# Altium schematic symbol library MCU_Microchip_ATmega.SchLib: 440 symbols (part 9 of 9)
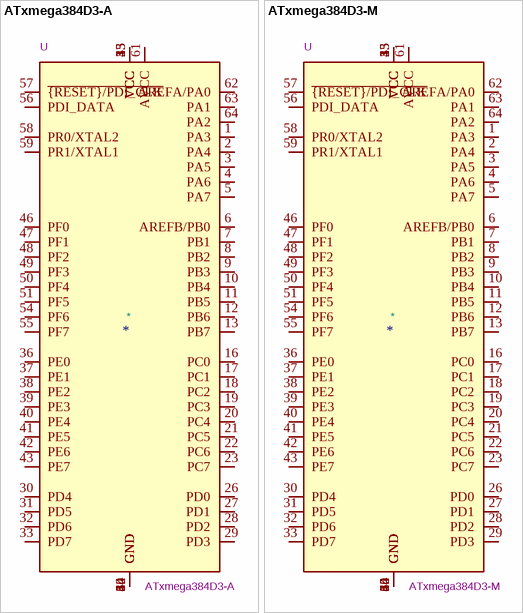
[diagram p48: symbols ATxmega384D3-A to ATxmega384D3-M]

## ATxmega384D3-A
designator *  value ATxmega384D3-A  Reference: U
32MHz, 384kB Flash, 8kB Boot, 32kB SRAM, 4kB EEPROM, JTAG, TQFP-64; ki_keywords: AVR 8/16bit Microcontroller XMegaAVR; ki_fp_filters: TQFP*14x14mm*P0.8mm*; Footprint: Package_QFP:TQFP-64_14x14mm_P0.8mm; Datasheet: http://ww1.microchip.com/downloads/en/DeviceDoc/Atmel-8134-8-16-bit-Atmel-XMEGA-D3-Microcontroller_Datasheet.pdf; Description_: 32MHz, 384kB Flash, 8kB Boot, 32kB SRAM, 4kB EEPROM, JTAG, TQFP-64
pins: 1 PA3, 2 PA4, 3 PA5, 4 PA6, 5 PA7, 6 AREFB/PB0, 7 PB1, 8 PB2, 9 PB3, 10 PB4, 11 PB5, 12 PB6, 13 PB7, 14 GND, 15 VCC, 16 PC0, 17 PC1, 18 PC2, 19 PC3, 20 PC4, 21 PC5, 22 PC6, 23 PC7, 24 GND, 25 VCC, 26 PD0, 27 PD1, 28 PD2, 29 PD3, 30 PD4, 31 PD5, 32 PD6, 33 PD7, 34 GND, 35 VCC, 36 PE0, 37 PE1, 38 PE2, 39 PE3, 40 PE4, 41 PE5, 42 PE6, 43 PE7, 44 GND, 45 VCC, 46 PF0, 47 PF1, 48 PF2, 49 PF3, 50 PF4, 51 PF5, 52 GND, 53 VCC, 54 PF6, 55 PF7, 56 PDI_DATA, 57 ~{{RESET}/PDI_CLK}, 58 PR0/XTAL2, 59 PR1/XTAL1, 60 GND, 61 AVCC, 62 AREFA/PA0, 63 PA1, 64 PA2

## ATxmega384D3-M
designator *  value ATxmega384D3-M  Reference: U
32MHz, 384kB Flash, 8kB Boot, 32kB SRAM, 4kB EEPROM, JTAG, QFN-64; ki_keywords: AVR 8/16bit Microcontroller XMegaAVR; ki_fp_filters: QFN*1EP*9x9mm*P0.5mm*; Footprint: Package_DFN_QFN:QFN-64-1EP_9x9mm_P0.5mm_EP7.65x7.65mm; Datasheet: http://ww1.microchip.com/downloads/en/DeviceDoc/Atmel-8134-8-16-bit-Atmel-XMEGA-D3-Microcontroller_Datasheet.pdf; Description_: 32MHz, 384kB Flash, 8kB Boot, 32kB SRAM, 4kB EEPROM, JTAG, QFN-64
pins: 1 PA3, 2 PA4, 3 PA5, 4 PA6, 5 PA7, 6 AREFB/PB0, 7 PB1, 8 PB2, 9 PB3, 10 PB4, 11 PB5, 12 PB6, 13 PB7, 14 GND, 15 VCC, 16 PC0, 17 PC1, 18 PC2, 19 PC3, 20 PC4, 21 PC5, 22 PC6, 23 PC7, 24 GND, 25 VCC, 26 PD0, 27 PD1, 28 PD2, 29 PD3, 30 PD4, 31 PD5, 32 PD6, 33 PD7, 34 GND, 35 VCC, 36 PE0, 37 PE1, 38 PE2, 39 PE3, 40 PE4, 41 PE5, 42 PE6, 43 PE7, 44 GND, 45 VCC, 46 PF0, 47 PF1, 48 PF2, 49 PF3, 50 PF4, 51 PF5, 52 GND, 53 VCC, 54 PF6, 55 PF7, 56 PDI_DATA, 57 ~{{RESET}/PDI_CLK}, 58 PR0/XTAL2, 59 PR1/XTAL1, 60 GND, 61 AVCC, 62 AREFA/PA0, 63 PA1, 64 PA2, 65 GND